# Altium schematic symbol library SL1J.SchLib: 1 symbol
Pins are listed as number, name and electrical type; pins without a type are passive.

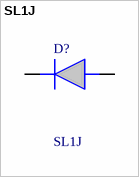
[diagram p0: symbol SL1J]

## SL1J
designator D?
Rectifier Diode Switching 600V 1A 1000ns 2-Pin SOD-123FL T/R; Manufacturer_Name: Diotec; Geometry.Height: 1.3mm; Manufacturer_Part_Number: SL1J; Mouser Part Number: 637-SL1J; Mouser Price/Stock: https://www.mouser.co.uk/ProductDetail/Diotec-Semiconductor/SL1J?qs=OlC7AqGiEDm%2FUyNJqMVviA%3D%3D; Arrow Part Number: SL1J; Arrow Price/Stock: https://www.arrow.com/en/products/sl1j/diotec-semiconductor-ag?region=europe; Datasheet Link: https://diotec.com/request/datasheet/sl1a.pdf
footprint SODFL3718X130N
pins: 1 K, 2 A